# EAGLE library part BMX055 (library components)
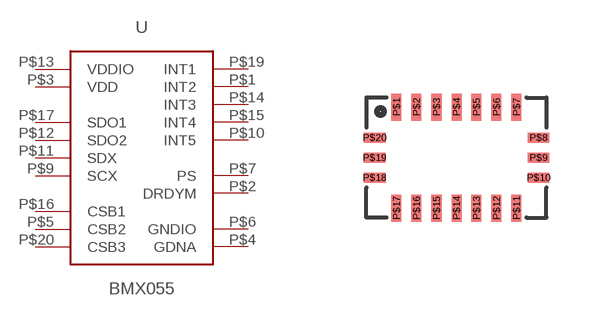
[diagram p2: symbol with the pads of LGA20; footprint LGA20]

Designator prefix -

## BMX055  [LGA20]
P$1  INT2
P$2  DRDYM
P$3  VDD
P$4  GDNA
P$5  CSB2
P$6  GNDIO
P$7  PS
P$9  SCX
P$10  INT5
P$11  SDX
P$12  SDO2
P$13  VDDIO
P$14  INT3
P$15  INT4
P$16  CSB1
P$17  SDO1
P$19  INT1
P$20  CSB3

## Footprint LGA20 (pad centres in mm)
smd 0.25 x 0.675: P$1 -1.5,1.262; P$2 -1,1.262; P$3 -0.5,1.262; P$4 0,1.262; P$5 0.5,1.262; P$6 1,1.262; P$7 1.5,1.262; P$11 1.5,-1.262; P$12 1,-1.262; P$13 0.5,-1.262; P$14 0,-1.262; P$15 -0.5,-1.262; P$16 -1,-1.262; P$17 -1.5,-1.262
smd 0.55 x 0.25: P$8 2.05,0.5; P$9 2.05,0; P$10 2.05,-0.5; P$18 -2.05,-0.5; P$19 -2.05,0; P$20 -2.05,0.5